# Altium footprint library TSOP753.PcbLib: 1 footprints
Each footprint in its own frame and in the unit in brackets; x right, y up, seen from the top. Pads: shape width x height; smd on the part's side, far side on the other; paste and mask are expansions set on the pad; w line width, h text height; cw(c..) or ccw(c..) is an arc to the next point about the centre after c.
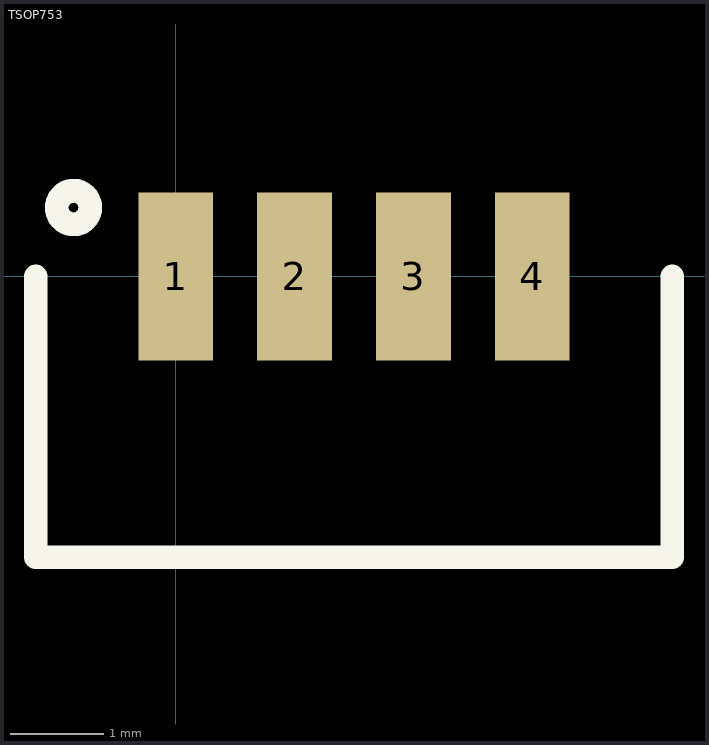
[diagram p0: the footprint, top view; thin cyan lines are the x and y axes]

## TSOP753 [mm] "IR Receiver Module TSOP75338TR"
pads (4):
  rect 0.8x1.8 smd: 1(0,0) 2(1.27,0) 3(2.54,0) 4(3.81,0)
Top Overlay:
  circle w0.254: c-1.092,0.737 r0.18
  lines w0.254: -1.495,0 -1.495,-3 5.305,-3 5.305,0
3D body "TSOP753.stp": height 3.15, standoff 0.05, extent -1.545,-3.094 5.355,0.106